# Altium footprint library 2.54MM_弯针.PcbLib: 19 footprints (part 2 of 2)
Each footprint in its own frame and in the unit in brackets; x right, y up, seen from the top. Pads: shape width x height; smd on the part's side, far side on the other; paste and mask are expansions set on the pad; w line width, h text height; cw(c..) or ccw(c..) is an arc to the next point about the centre after c.
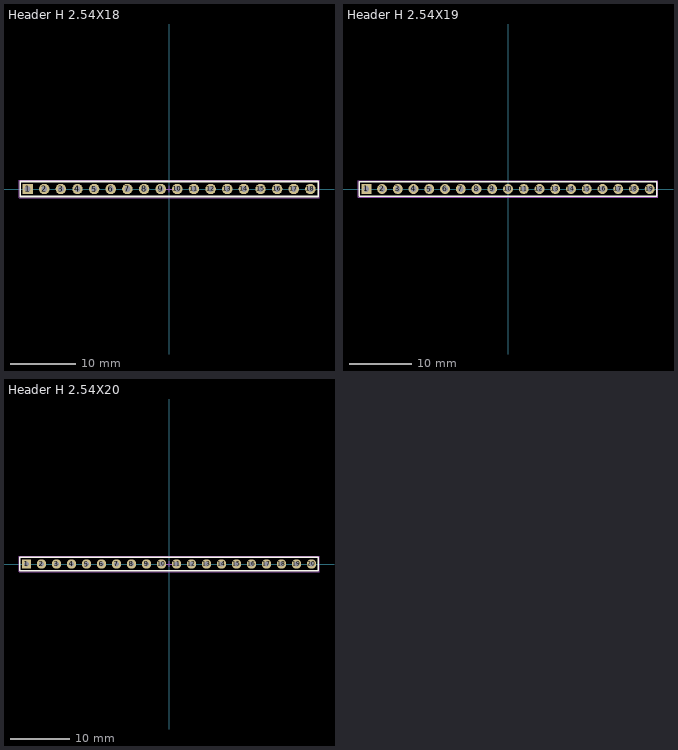
[diagram p1: the footprints below, top view; thin cyan lines are the x and y axes]

## Header H 2.54X18 [mm]
pads (18):
  rect 1.6x1.6 hole 0.9: 1(-21.59,0)
  round 1.6 hole 0.9: 2(-19.05,0) 3(-16.51,0) 4(-13.97,0) 5(-11.43,0) 6(-8.89,0) 7(-6.35,0) 8(-3.81,0) 9(-1.27,0) 10(1.27,0) 11(3.81,0) 12(6.35,0) 13(8.89,0) 14(11.43,0) 15(13.97,0) 16(16.51,0) 17(19.05,0) 18(21.59,0)
Top Overlay:
  lines w0.254: -22.733,-1.143 -22.733,1.143 22.8,1.143 22.8,-1.143 -22.733,-1.143
Mechanical 15:
  lines w0.1: -0.5,0 0.5,0 ; 0,-0.5 0,0.5 ; -22.9,-1.3 -22.9,1.3 22.9,1.3 22.9,-1.3 -22.9,-1.3
3D body "HEADER 18H.STEP": height 4.43, standoff -2.9, extent -22.863,-1.268 22.857,7.002

## Header H 2.54X19 [mm]
pads (19):
  rect 1.6x1.6 hole 0.9: 1(-22.86,0)
  round 1.6 hole 0.9: 2(-20.32,0) 3(-17.78,0) 4(-15.24,0) 5(-12.7,0) 6(-10.16,0) 7(-7.62,0) 8(-5.08,0) 9(-2.54,0) 10(0,0) 11(2.54,0) 12(5.08,0) 13(7.62,0) 14(10.16,0) 15(12.7,0) 16(15.24,0) 17(17.78,0) 18(20.32,0) 19(22.86,0)
Top Overlay:
  lines w0.254: -24.003,-1.143 -24.003,1.143 24,1.143 24,-1.143 -24.003,-1.143
Mechanical 15:
  lines w0.1: -24.2,-1.3 -24.2,1.3 24.2,1.3 24.2,-1.3 -24.2,-1.3
3D body "HEADER 19H.STEP": height 4.43, standoff -2.9, extent -24.123,-1.268 24.137,7.002

## Header H 2.54X20 [mm]
pads (20):
  rect 1.6x1.6 hole 0.9: 1(-24.13,0)
  round 1.6 hole 0.9: 2(-21.59,0) 3(-19.05,0) 4(-16.51,0) 5(-13.97,0) 6(-11.43,0) 7(-8.89,0) 8(-6.35,0) 9(-3.81,0) 10(-1.27,0) 11(1.27,0) 12(3.81,0) 13(6.35,0) 14(8.89,0) 15(11.43,0) 16(13.97,0) 17(16.51,0) 18(19.05,0) 19(21.59,0) 20(24.13,0)
Top Overlay:
  lines w0.254: -25.273,-1.143 25.3,-1.143 25.3,1.143 -25.273,1.143 -25.273,-1.143
Mechanical 15:
  lines w0.1: -0.5,0 0.5,0 ; 0,-0.5 0,0.5 ; -25.4,-1.3 25.4,-1.3 25.4,1.3 -25.4,1.3 -25.4,-1.3
3D body "HEADER 20H.STEP": height 4.43, standoff -2.9, extent -25.4,-1.27 25.4,7